# Altium schematic symbol library larar6.SchLib: 17 symbols
Pins are listed as number, name and electrical type; pins without a type are passive.

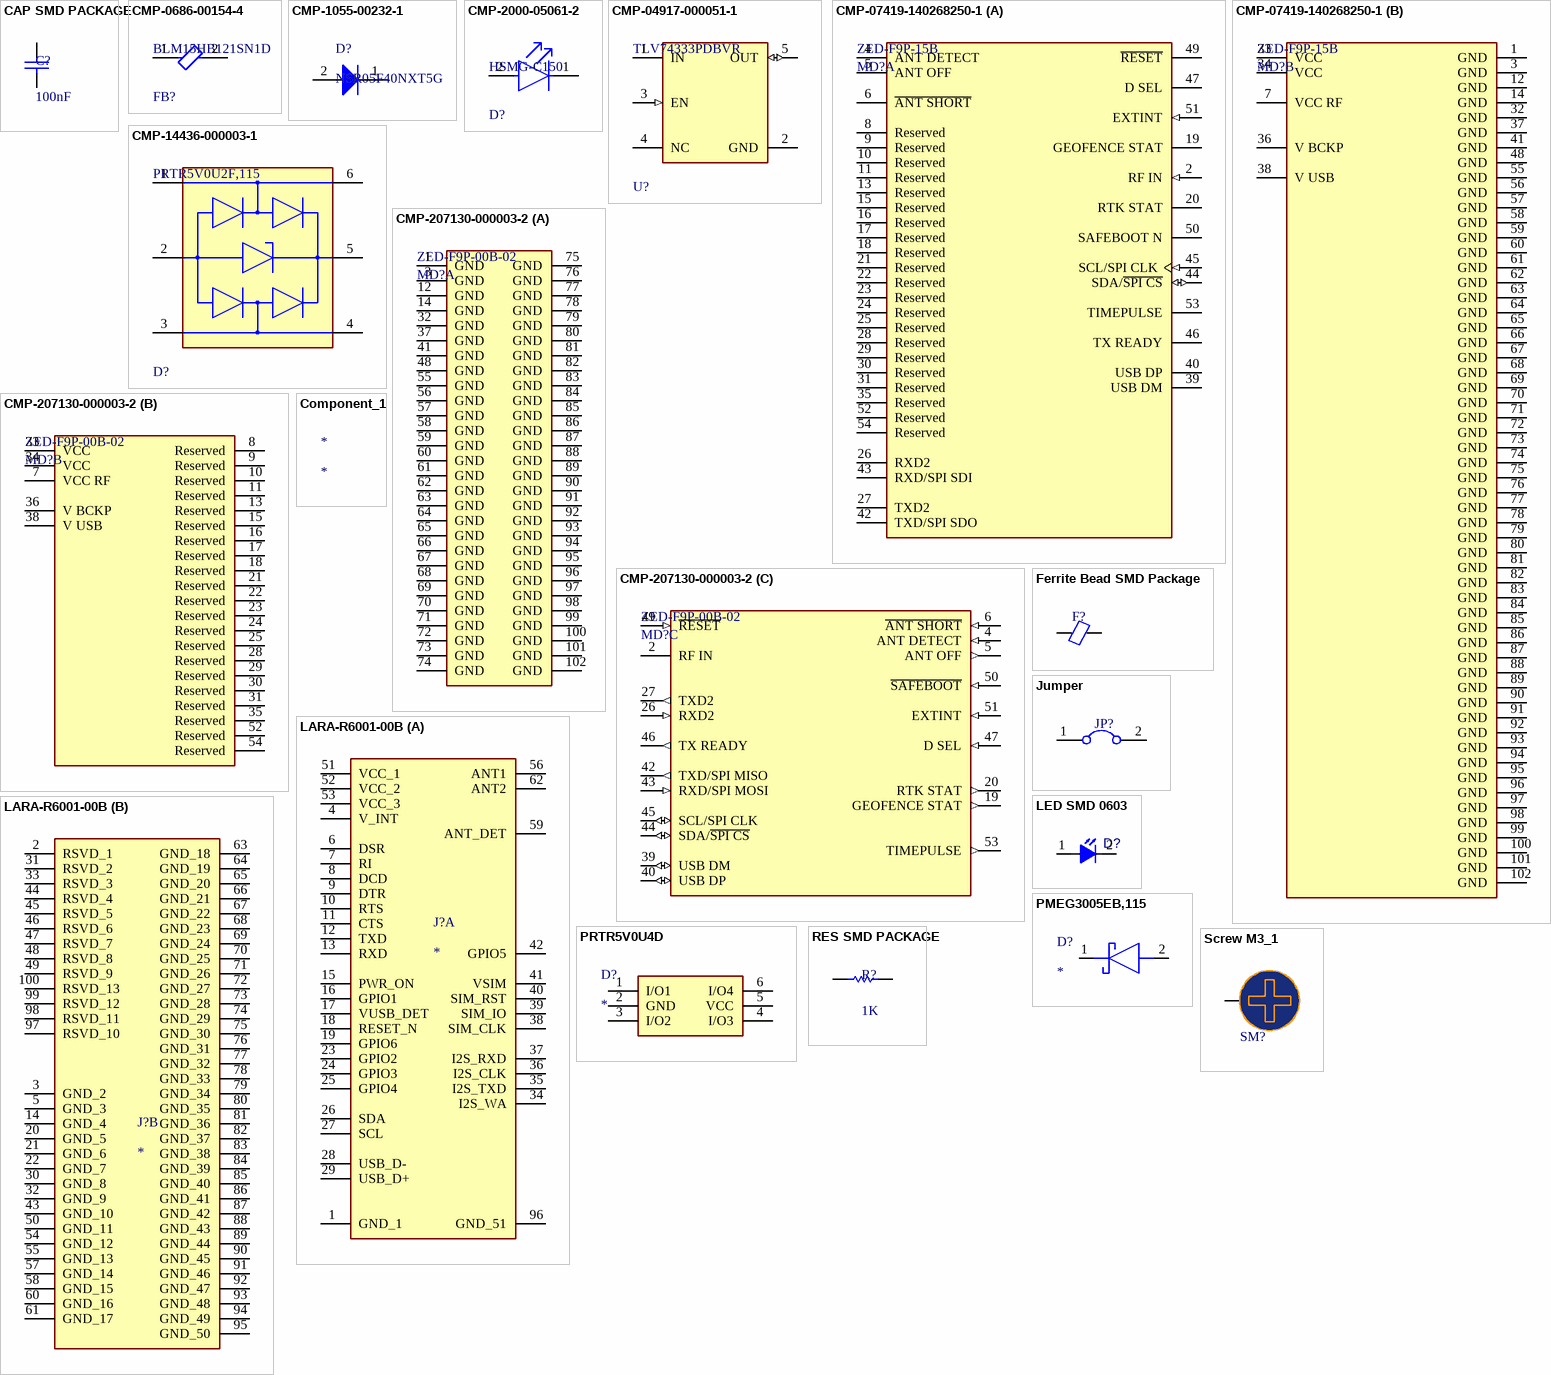
[diagram p0: symbols CAP SMD PACKAGE to Screw M3_1]

## CAP SMD PACKAGE
designator C?, comment 100nF
TOTAL CAPACITOR SMD PACK; Designer: Abbas Basereh; Desc.: CAP SMD TOTAL PACKAGES; Data: 2017-3-10; VALUE: 100nF
signal-integrity model CAP SMD (CAP SMD PACK)
footprint CAP0201 (Chip Capacitor, 2-Leads, Body 0/60x0/30mm, IPC Medium Density DESIGNER:ABBAS BASEREH)
footprint CAP0402 (Chip Capacitor, 2-Leads, Body 1/00x0/50mm, IPC Medium Density DESIGNER:ABBAS BASEREH)
footprint CAP0603 (Chip Capacitor, 2-Leads, Body 1/60x0/80mm, IPC Medium Density DESIGNER:ABBAS BASEREH)
footprint CAP0805 (Chip Capacitor, 2-Leads, Body 2/00x1/25mm, IPC Medium Density DESIGNER:ABBAS BASEREH)
footprint CAP1206 (Chip Capacitor, 2-Leads, Body 3/20x1/60mm, IPC Medium Density DESIGNER:ABBAS BASEREH)
footprint CAP1210 (Chip Capacitor, 2-Leads, Body 3/20x2/50mm, IPC Medium Density DESIGNER:ABBAS BASEREH)
footprint CAP1812 (Chip Capacitor, 2-Leads, Body 4/50x3/20mm, IPC Medium Density DESIGNER:ABBAS BASEREH)
footprint CAP2010 (Chip Capacitor, 2-Leads, Body 5/00x2/50mm, IPC Medium Density DESIGNER:ABBAS BASEREH)
footprint CAP2512 (Chip Capacitor, 2-Leads, Body 6/40x3/20mm, IPC Medium Density DESIGNER:ABBAS BASEREH)
footprint Cap402_(1005X05L) (Chip Capacitor, 2-Leads, Body 1.0x0.5mm, IPC High Density)
footprint Cap1206_(3216X15)
footprint Cap1206_(3216X15L) (Chip Capacitor, 2-Leads, Body 3.2x1.6mm, IPC High Density)
footprint Cap1206_(3216X18L)Size A (Chip Capacitor, 2-Leads, Body 3.2x1.6mm, IPC High Density, chip Tantalum)
footprint CAP805
footprint CAPC3413X12N (Chip Capacitor, 2-Leads, Body 3/40x1/30mm, IPC Medium Density-Design:Abbas Basereh)
footprint Cap SMD 100UF 35~50v
footprint CAP SMD 470uF (SMD CAP 470uF)
footprint CAP SMD 1000UF 16V
pins: 1, 2

## CMP-0686-00154-4
designator FB?, comment BLM15HB121SN1D
Chip Ferrite Bead, 0402, 120Ω @ 100MHz, 0.7Ω, 25%, 300mA; Impedance: 120R; DC Resistance (DCR): 700mR; Number of Lines: 1; Material: Steel; Lead Free: Lead Free; Min Operating Temperature: -55°C; Package Quantity: 10000; Tolerance: 25%; REACH SVHC: No SVHC; Termination: SMD/SMT; Number of Pins: 2; Frequency: 100MHz; Weight: 2.3E-05oz; Test Frequency: 100MHz; Series: BLM15H; Max DC Current: 300mA; Packaging: Tape and Reel; Width: 0.5mm; Max Current Rating: 300mA; Height: 0.5mm; Depth: 0.55mm; Case Code (Imperial): 0402; RoHS Compliant: Yes; Max Operating Temperature: 125°C; Current Rating: 300mA; Case Code (Metric): 1005; Number of Circuits: 1; Length: 1mm; Case/Package: 0402
footprint FP-BLM15-0_05-IPC_C
footprint FP-BLM15-0_05-IPC_A
footprint FP-BLM15-0_05-MFG
footprint FP-BLM15-0_05-IPC_B
pins: 1, 2

## CMP-1055-00232-1
designator D?, comment NSR05F40NXT5G
Schottky Barrier Diode, 2-Pin DSN, Pb-Free, Tape and Reel; Manufacturer: On Semiconductor; IFSM Max (A): 10; Configuration: Single; RoHS: TRUE; PackageVersion: Rev. C, 01/2011; ComponentLink3Description: Package Specification; ComponentLink3URL: http://www.onsemi.cn/pub_link/Collateral/152AC.PDF; PackageDescription: 2-Pin Micro Molded Package, Body 1 x 0.6 mm; ComponentLink1URL: http://www.onsemi.com/; ComponentLink1Description: Manufacturer URL; Mounting Technology: Surface Mount; Packing: Tape and Reel; PackageReference: DSN-2-152AC-01; ComponentLink2Description: Datasheet; DatasheetVersion: Rev. 3; ComponentLink2URL: http://www.onsemi.cn/pub_link/Collateral/NSR05F40.PDF; PartNumber: NSR05F40NXT5G
footprint ONSC-DSN-2-152AC-01_V (DSN, 2-Leads, Body 1x0.6mm)
pins: 1 K, 2 A

## CMP-2000-05061-2
designator D?, comment HSMG-C150
LED GREEN DIFFUSED 1206 SMD; Manufacturer: Broadcom; Led Orientation: Top View; Max Junction Temp: +95°C; Peak Emmision Wavelength: 570nm; Viewing Angle: 170°; Wavelength: 572nm; Reverse Voltage: 5V; Luminous Intensity: 15mcd; Forward Voltage: 2.2V; Power Dissipation: 65mW; Forward Current: 20mA; ComponentLink2Description: Datasheet; Lead Free: Yes; Temperature Range Low: -40°C; Package: HSMG-C150; Digikey Description: LED GREEN DIFFUSED 1206 SMD; Mouser Description: LED Uni-Color Green 570nm 2-Pin Chip LED T/R; Manufacturer Part Number: HSMG-C150; Temperature Range High: +85°C; Device Class L1: Optoelectronics; Colour: Green; Category: Diode; Device Class L3: unset; RoHS: TRUE; Height: 1.2mm; ComponentLink2URL: https://docs.broadcom.com/docs/AV02-0551EN; Device Class L2: LEDs; Automotive: No; Ipc Land Pattern Name: DIOCP320160X55; Octopart: https://octopart.com/hsmg-c150-broadcom-71131304; Temperature: -40°C to +85°C
footprint FP-HSMG-C150-MFG
pins: 1 C, 2 A

## CMP-04917-000051-1
designator U?, comment TLV74333PDBVR
IC REG LINEAR 3.3V 300MA SOT23-5; Manufacturer: Texas Instruments; Dropout Voltage: 125mV; Output Type: Fixed; Min Supply Voltage: 1.4V; Max Supply Voltage: 5.5V; Output Voltage: 1-3.3V; Standoff Height: 0mm; Nominal Supply Current: 34uA; Number Of Outputs: 1; Accuracy Percentage: 1%; Max Junction Temp: +125°C; Mouser Description: 300mA Low-Dropout (LDO) Regulator 5-SOT-23 -40 to 125; Device Class L1: Integrated Circuits (ICs); Temperature Range High: +125°C; Octopart: https://octopart.com/tlv74333pdbvr-texas+instruments-84791760; Device Class L3: Voltage Regulators - Linear; Height: 1.45mm; Category: IC; Temperature Range Low: -40°C; Output Current: 300mA; RoHS: TRUE; Automotive: No; Manufacturer Part Number: TLV74333PDBVR; Digikey Description: IC REG LINEAR 3.3V 300MA SOT23-5; Package: DBV0005A; Temperature: -40°C to +125°C; ComponentLink2URL: http://www.ti.com/lit/ds/symlink/tlv743p.pdf; Lead Free: Yes; Device Class L2: Power Management ICs; ComponentLink2Description: Datasheet
footprint FP-DBV0005A-MFG
footprint FP-DBV0005A-IPC_B
footprint FP-DBV0005A-IPC_C
footprint FP-DBV0005A-IPC_A
pins: 1 IN (power), 2 GND (power), 3 EN (in), 4 NC, 5 OUT (io)

## CMP-07419-140268250-1
designator MD?, comment ZED-F9P-15B
ZED-F9P-15B GNSS / GPS Modules u-blox F9 dual band L1/L5 GNSS module high precision Professi; NexarPartId: 140268250; Interface: I2C, SPI, UART, USB; Min Supply Voltage: 1.65V; Max Supply Voltage: 3.6V; Data Rate: 400kbps; Max Operating Temperature: 85°C; Height: 2.6mm; Min Operating Temperature: -40°C
footprint FP-ZED-F9P-15B-MFG
part A pins: 2 RF IN (in), 4 ANT DETECT, 5 ANT OFF, 6 ~{ANT SHORT}, 8 Reserved, 9 Reserved, 10 Reserved, 11 Reserved, 13 Reserved, 15 Reserved, 16 Reserved, 17 Reserved, 18 Reserved, 19 GEOFENCE STAT, 20 RTK STAT, 21 Reserved, 22 Reserved, 23 Reserved, 24 Reserved, 25 Reserved, 26 RXD2, 27 TXD2, 28 Reserved, 29 Reserved, 30 Reserved, 31 Reserved, 35 Reserved, 39 USB DM, 40 USB DP, 42 TXD/SPI SDO, 43 RXD/SPI SDI, 44 SDA/~{SPI CS} (io), 45 SCL/SPI CLK (in), 46 TX READY, 47 D SEL, 49 ~{RESET}, 50 SAFEBOOT N, 51 EXTINT (in), 52 Reserved, 53 TIMEPULSE, 54 Reserved
part B pins: 1 GND (power), 3 GND (power), 7 VCC RF, 12 GND (power), 14 GND (power), 32 GND (power), 33 VCC (power), 34 VCC (power), 36 V BCKP, 37 GND (power), 38 V USB (power), 41 GND (power), 48 GND (power), 55 GND (power), 56 GND (power), 57 GND (power), 58 GND (power), 59 GND (power), 60 GND (power), 61 GND (power), 62 GND (power), 63 GND (power), 64 GND (power), 65 GND (power), 66 GND (power), 67 GND (power), 68 GND (power), 69 GND (power), 70 GND (power), 71 GND (power), 72 GND (power), 73 GND (power), 74 GND (power), 75 GND (power), 76 GND (power), 77 GND (power), 78 GND (power), 79 GND (power), 80 GND (power), 81 GND (power), 82 GND (power), 83 GND (power), 84 GND (power), 85 GND (power), 86 GND (power), 87 GND (power), 88 GND (power), 89 GND (power), 90 GND (power), 91 GND (power), 92 GND (power), 93 GND (power), 94 GND (power), 95 GND (power), 96 GND (power), 97 GND (power), 98 GND (power), 99 GND (power), 100 GND (power), 101 GND (power), 102 GND (power)

## CMP-14436-000003-1
designator D?, comment PRTR5V0U2F,115
TVS DIODE 5.5V 6XSON SOT886; Manufacturer: Nexperia; Capacitance: 1pF; Number Of Channels: 2; Automotive Grade: Grade 3; Direction: Unidirectional; Value: 1pF; Breakdown Voltage: 6V; Octopart: https://octopart.com/prtr5v0u2f%2C115-nexperia-78741690; Height: 0.5mm; Category: Diode; RoHS: TRUE; Automotive: Yes; Reverse Standoff Voltage: 5.5V; Digikey Description: TVS DIODE 5.5V 6XSON SOT886; Device Class L1: Circuit Protection; Ambient Temperature Range High: +85°C; ComponentLink2Description: Datasheet; Manufacturer Part Number: PRTR5V0U2F,115; Device Class L3: unset; Footprint Url: https://assets.nexperia.com/documents/outline-drawing/SOT886.pdf; Lead Free: Yes; Ambient Temperature Range Low: -40°C; Device Class L2: TVS Diodes; Package: SOT886; ComponentLink2URL: https://assets.nexperia.com/documents/data-sheet/PRTR5V0U2F_PRTR5V0U2K.pdf
footprint FP-SOT886-MFG
pins: 1 I/O1, 2 GND (power), 3 I/O2, 4 I/O2, 5 VCC (power), 6 I/O1

## CMP-207130-000003-2
designator MD?, comment ZED-F9P-00B-02
RF RECEIVER GNSS/GPS 54LGA; Manufacturer: ublox; Data Rate: 400kbits/s; Max Frequency: 1602MHz; Automotive Grade: Grade 3; Sensitivity: -167dBm; Bandwidth: 1227.6-1575.42MHz; Max Supply Voltage: 3.6V; Nominal Supply Current: 68-90mA; Min Supply Voltage: 1.65V; Interface: I2C,SPI,UART,USB; Device Class L3: RF Receivers; Category: UNK; Temperature Range Low: -40°C; Device Class L1: Integrated Circuits (ICs); Temperature: -40°C to +85°C; Height: 2.6mm; Automotive: Yes; Octopart: https://octopart.com/zed-f9p-00b-02-u-blox-99968466; Digikey Description: RF RECEIVER GNSS/GPS 54LGA; ComponentLink2URL: https://www.u-blox.com/sites/default/files/ZED-F9P_DataSheet_%28UBX-17051259%29.pdf; ComponentLink2Description: Datasheet; RoHS: TRUE; Package: ZED-F9P-00B-02; Lead Free: Yes; Manufacturer Part Number: ZED-F9P-00B-02; Temperature Range High: +85°C; Device Class L2: RF Semiconductors and Devices
footprint FP-ZED-F9P-15B-MFG
part A pins: 1 GND (power), 3 GND (power), 12 GND (power), 14 GND (power), 32 GND (power), 37 GND (power), 41 GND (power), 48 GND (power), 55 GND (power), 56 GND (power), 57 GND (power), 58 GND (power), 59 GND (power), 60 GND (power), 61 GND (power), 62 GND (power), 63 GND (power), 64 GND (power), 65 GND (power), 66 GND (power), 67 GND (power), 68 GND (power), 69 GND (power), 70 GND (power), 71 GND (power), 72 GND (power), 73 GND (power), 74 GND (power), 75 GND (power), 76 GND (power), 77 GND (power), 78 GND (power), 79 GND (power), 80 GND (power), 81 GND (power), 82 GND (power), 83 GND (power), 84 GND (power), 85 GND (power), 86 GND (power), 87 GND (power), 88 GND (power), 89 GND (power), 90 GND (power), 91 GND (power), 92 GND (power), 93 GND (power), 94 GND (power), 95 GND (power), 96 GND (power), 97 GND (power), 98 GND (power), 99 GND (power), 100 GND (power), 101 GND (power), 102 GND (power)
part B pins: 7 VCC RF (power), 8 Reserved, 9 Reserved, 10 Reserved, 11 Reserved, 13 Reserved, 15 Reserved, 16 Reserved, 17 Reserved, 18 Reserved, 21 Reserved, 22 Reserved, 23 Reserved, 24 Reserved, 25 Reserved, 28 Reserved, 29 Reserved, 30 Reserved, 31 Reserved, 33 VCC (power), 34 VCC (power), 35 Reserved, 36 V BCKP (power), 38 V USB (power), 52 Reserved, 54 Reserved
part C pins: 2 RF IN, 4 ANT DETECT (in), 5 ANT OFF (out), 6 ~{ANT SHORT} (in), 19 GEOFENCE STAT (out), 20 RTK STAT (out), 26 RXD2 (in), 27 TXD2 (out), 39 USB DM (io), 40 USB DP (io), 42 TXD/SPI MISO (out), 43 RXD/SPI MOSI (in), 44 SDA/~{SPI CS} (io), 45 SCL/SPI CLK (io), 46 TX READY (out), 47 D SEL (in), 49 ~{RESET} (in), 50 ~{SAFEBOOT} (in), 51 EXTINT (in), 53 TIMEPULSE (out)

## Component_1
designator *

## Ferrite Bead SMD Package
designator F?, comment Ferrite Bead SMD  (value not drawn)
Designer: Ali Hafizi
footprint FB0402 (Ferrite Chip Bead SMD 0402-Design:Ali Hafizi)
footprint FB0603 (Ferrite Chip Bead SMD 0603-Design:Ali Hafizi)
footprint FB0805 (Ferrite Chip Bead SMD 0805-Design:Ali Hafizi)
footprint FB1206 (Ferrite Chip Bead SMD 1206-Design:Ali Hafizi)
pins: 1, 2

## Jumper
designator JP?
Jumper; Company: E.P.I.L; Defualt State: Close; Design Date: 2011/11/02
footprint Jumper
footprint Jumper SMD
footprint Jumper Small - 2.54 - BLUE
footprint Jumper Small - 2.54 - GRAY
footprint Jumper Small - 2.54 - RED
footprint Jumper Small - 2.54 - GRAY - Open
footprint Jumper SMD - Small
pins: 1, 2

## LARA-R6001-00B
designator J?
Connector; Manufacturer_Name: u-blox; Manufacturer_Part_Number: LARA-R6001-00B; Datasheet Link: https://content.u-blox.com/sites/default/files/LARA-R6_DataSheet_UBX-21004391.pdf; Height: 2.87mm; Mouser Part Number: 377-LARA-R6001-00B; Mouser Price/Stock: https://www.mouser.co.uk/ProductDetail/u-blox/LARA-R6001-00B?qs=Li%252BoUPsLEnu1nGRnflMQjg%3D%3D
footprint LARAR600100B
part A pins: 1 GND_1, 4 V_INT, 6 DSR, 7 RI, 8 DCD, 9 DTR, 10 RTS, 11 CTS, 12 TXD, 13 RXD, 15 PWR_ON, 16 GPIO1, 17 VUSB_DET, 18 RESET_N, 19 GPIO6, 23 GPIO2, 24 GPIO3, 25 GPIO4, 26 SDA, 27 SCL, 28 USB_D-, 29 USB_D+, 34 I2S_WA, 35 I2S_TXD, 36 I2S_CLK, 37 I2S_RXD, 38 SIM_CLK, 39 SIM_IO, 40 SIM_RST, 41 VSIM, 42 GPIO5, 51 VCC_1, 52 VCC_2, 53 VCC_3, 56 ANT1, 59 ANT_DET, 62 ANT2, 96 GND_51
part B pins: 2 RSVD_1, 3 GND_2, 5 GND_3, 14 GND_4, 20 GND_5, 21 GND_6, 22 GND_7, 30 GND_8, 31 RSVD_2, 32 GND_9, 33 RSVD_3, 43 GND_10, 44 RSVD_4, 45 RSVD_5, 46 RSVD_6, 47 RSVD_7, 48 RSVD_8, 49 RSVD_9, 50 GND_11, 54 GND_12, 55 GND_13, 57 GND_14, 58 GND_15, 60 GND_16, 61 GND_17, 63 GND_18, 64 GND_19, 65 GND_20, 66 GND_21, 67 GND_22, 68 GND_23, 69 GND_24, 70 GND_25, 71 GND_26, 72 GND_27, 73 GND_28, 74 GND_29, 75 GND_30, 76 GND_31, 77 GND_32, 78 GND_33, 79 GND_34, 80 GND_35, 81 GND_36, 82 GND_37, 83 GND_38, 84 GND_39, 85 GND_40, 86 GND_41, 87 GND_42, 88 GND_43, 89 GND_44, 90 GND_45, 91 GND_46, 92 GND_47, 93 GND_48, 94 GND_49, 95 GND_50, 97 RSVD_10, 98 RSVD_11, 99 RSVD_12, 100 RSVD_13

## LED SMD 0603
designator D?
LED SMD 0603; ComponentLink1Description: Tarahiboard; ComponentLink1URL: https://www.tarahiboard.com/product/library-pack; DatasheetVersion: 2022
footprint LED SMD 0603 (Blue) ((Make www.tarahiboard.com))
footprint LED SMD 0603 (green) ((Make www.tarahiboard.com))
footprint LED SMD 0603 (Orange) ((Make www.tarahiboard.com))
footprint LED SMD 0603 (Red) ((Make www.tarahiboard.com))
footprint LED SMD 0603 (White) ((Make www.tarahiboard.com))
footprint LED SMD 0603 (Yellow) ((Make www.tarahiboard.com))
footprint LED SMD 0603 2 (Green) ((Make www.tarahiboard.com))
pins: 1 ANODE, 2 CATHODE

## PMEG3005EB,115
designator D?
Schottky Diode; Manufacturer_Name: Nexperia; Manufacturer_Part_Number: PMEG3005EB,115; Datasheet Link: https://assets.nexperia.com/documents/data-sheet/PMEG3005EB.pdf; Height: 0.65mm; Mouser Part Number: 771-PMEG3005EB115; Mouser Price/Stock: https://www.mouser.co.uk/ProductDetail/Nexperia/PMEG3005EB115?qs=LOCUfHb8d9sJz8AA9%252BQ%252Bgg%3D%3D; Arrow Part Number: PMEG3005EB,115; Arrow Price/Stock: https://www.arrow.com/en/products/pmeg3005eb115/nexperia?region=asia
footprint SODFL1608X65N
pins: 1 K, 2 A

## PRTR5V0U4D
designator D?
Diode; Manufacturer_Name: Nexperia; Manufacturer_Part_Number: PRTR5V0U4D; Datasheet Link: https://assets.nexperia.com/documents/data-sheet/PRTR5V0U4D.pdf; Height: 1.1mm; Mouser Part Number: N/A; Mouser Price/Stock: https://www.mouser.co.uk/ProductDetail/Nexperia/PRTR5V0U4D?qs=vHuUswq2%252BsyGEwE2lWbPJQ%3D%3D
footprint SOT95P275X110-6N
pins: 1 I/O1, 2 GND, 3 I/O2, 4 I/O3, 5 VCC, 6 I/O4

## RES SMD PACKAGE
designator R?, comment 1K
TOTAL SMD RESISTOR PACK; Designer: Abbas Basereh; Desc.: RES SMD PAKAGES; Data: 2017-3-10
footprint RES0201 (Chip Resistor, 2-Leads, Body 0/60x0/30mm, IPC Medium Density DESIGNER:ABBAS BASEREH)
footprint RES0402 (Chip Resistor, 2-Leads, Body 1/00x0/50mm, IPC Medium Density DESIGNER:ABBAS BASEREH)
footprint RES0603 (Chip Resistor, 2-Leads, Body 1/60x0/80mm, IPC Medium Density DESIGNER:ABBAS BASEREH)
footprint RES0805 (Chip Resistor, 2-Leads, Body 2/00x1/25mm, IPC Medium Density DESIGNER:ABBAS BASEREH)
footprint RES1206 (Chip Resistor, 2-Leads, Body 3/20x1/60mm, IPC Medium Density DESIGNER:ABBAS BASEREH)
footprint RES1210 (Chip Resistor, 2-Leads, Body 3/20x2/50mm, IPC Medium Density DESIGNER:ABBAS BASEREH)
footprint RES1812 (Chip Resistor, 2-Leads, Body 4/50x3/20mm, IPC Medium Density DESIGNER:ABBAS BASEREH)
footprint RES2010 (Chip Resistor, 2-Leads, Body 5/00x2/50mm, IPC Medium Density DESIGNER:ABBAS BASEREH)
footprint RES2512 (Chip Resistor, 2-Leads, Body 6/40x3/20mm, IPC Medium Density DESIGNER:ABBAS BASEREH)
footprint RES0201_(0603X03L) (Chip Resistor, 2-Leads, Body 0.6x0.3mm, IPC High Density (0.05 W))
footprint RES0402_(1005X04L) (Chip Resistor, 2-Leads, Body 1.0x0.5mm, IPC High Density _ (0.031/0.063 W))
footprint RES0603_(1608X06L) (Chip Resistor, 2-Leads, Body 1.6x0.8mm, IPC High Density _ (0.063W))
footprint RES0805_(2012X06L) (Chip Resistor, 2-Leads, Body 2.0x1.3mm, IPC High Density _ (0.100 W))
footprint RES1206 _(3216X08L) (Chip Resistor, 2-Leads, Body 3.2x1.6mm, IPC High Density _ (0.125 W))
footprint RES1210_(3226X07L) (Chip Resistor, 2-Leads, Body 3.2x2.6mm, IPC High Density _ (0.250 W))
footprint RES1217_(3042X09L) (Chip Resistor, 2-Leads, Body 3.0x4.2mm, IPC High Density _ (0.250 W))
footprint RES2010_(5026X08L) (Chip Resistor, 2-Leads, Body 5.0x2.6mm, IPC High Density _ (0.250 W))
footprint RES2020_(5151X09L) (Chip Resistor, 2-Leads, Body 5.1x5.1mm, IPC High Density _ (0.5 W))
footprint RES2045_(50115X09L) (Chip Resistor, 2-Leads, Body 5.0x11.5mm, IPC High Density _ (1.0 W))
footprint RES2512_(6331X07L) (Chip Resistor, 2-Leads, Body 6.3x3.1mm, IPC High Density _ (0.500 W))
pins: 1, 2

## Screw M3_1
designator SM?  (no BOM)
Screw, hole diameter 3.2mm & 3.7mm, PanHead 5mm & 5.6mm & 6mm & 7mm; ComponentLink1Description: Website: Tarahiboard; ComponentLink1URL: https://www.tarahiboard.com/product/library-pack; DatasheetVersion: 2022
footprint Screw-Chsh-M3 (Screw, hole diameter 3.2mm, PanHead 6mm, (Make www.tarahiboard.com))
footprint Screw-Chsh-M3-wopad (Screw, hole diameter 3.2mm, PanHead 0mm, (Make www.tarahiboard.com))
footprint Screw-Chsh-M3-wovia (Screw, hole diameter 3.2mm, PanHead 6mm, (Make www.tarahiboard.com))
footprint Screw-Chsh-M3F (Screw, hole diameter 3.2mm, PanHead 7mm, (Make www.tarahiboard.com))
footprint Screw-Chsh-M3FT (Screw, hole diameter 3.2mm, PanHead 5mm, (Make www.tarahiboard.com))
footprint Screw-Chsh-M3P5 (Screw, hole diameter 3.7mm, PanHead 7mm, (Make www.tarahiboard.com))
footprint Screw-Chsh-M3P5FT (Screw, hole diameter 3.7mm, PanHead 5.6mm, (Make www.tarahiboard.com))
footprint Screw-Flth2-M3 (Screw, hole diameter 3.2mm, PanHead 6mm, (Make www.tarahiboard.com))
footprint Screw-Flth2-M3-wopad (Screw, hole diameter 3.2mm, PanHead 0mm, (Make www.tarahiboard.com))
footprint Screw-Flth2-M3-wovia (Screw, hole diameter 3.2mm, PanHead 6mm, (Make www.tarahiboard.com))
footprint Screw-Flth2-M3F (Screw, hole diameter 3.2mm, PanHead 7mm, (Make www.tarahiboard.com))
footprint Screw-Flth2-M3FT (Screw, hole diameter 3.2mm, PanHead 5mm, (Make www.tarahiboard.com))
footprint Screw-Flth2-M3P5 (Screw, hole diameter 3.7mm, PanHead 7mm, (Make www.tarahiboard.com))
footprint Screw-Flth2-M3P5FT (Screw, hole diameter 3.7mm, PanHead 5.6mm, (Make www.tarahiboard.com))
footprint Screw-Flth-M3 (Screw, hole diameter 3.2mm, PanHead 6mm, (Make www.tarahiboard.com))
footprint Screw-Flth-M3-wopad (Screw, hole diameter 3.2mm, PanHead 0mm, (Make www.tarahiboard.com))
footprint Screw-Flth-M3-wovia (Screw, hole diameter 3.2mm, PanHead 6mm, (Make www.tarahiboard.com))
footprint Screw-Flth-M3F (Screw, hole diameter 3.2mm, PanHead 7mm, (Make www.tarahiboard.com))
footprint Screw-Flth-M3FT (Screw, hole diameter 3.2mm, PanHead 5mm, (Make www.tarahiboard.com))
footprint Screw-Flth-M3P5 (Screw, hole diameter 3.7mm, PanHead 7mm, (Make www.tarahiboard.com))
footprint Screw-Flth-M3P5FT (Screw, hole diameter 3.7mm, PanHead 5.6mm, (Make www.tarahiboard.com))
footprint Screw-M3 (Screw, hole diameter 3.2mm, PanHead 6mm, (Make www.tarahiboard.com))
footprint Screw-M3-wopad (Screw, hole diameter 3.2mm, PanHead 0mm, (Make www.tarahiboard.com))
footprint Screw-M3-wovia (Screw, hole diameter 3.2mm, PanHead 6mm, (Make www.tarahiboard.com))
footprint Screw-M3F (Screw, hole diameter 3.2mm, PanHead 7mm, (Make www.tarahiboard.com))
footprint Screw-M3FT (Screw, hole diameter 3.2mm, PanHead 5mm, (Make www.tarahiboard.com))
footprint Screw-M3P5 (Screw, hole diameter 3.7mm, PanHead 7mm, (Make www.tarahiboard.com))
footprint Screw-M3P5FT (Screw, hole diameter 3.7mm, PanHead 5.6mm, (Make www.tarahiboard.com))
footprint Screw-Panh-M3 (Screw, hole diameter 3.2mm, PanHead 6mm, (Make www.tarahiboard.com))
footprint Screw-Panh-M3-wopad (Screw, hole diameter 3.2mm, PanHead 0mm, (Make www.tarahiboard.com))
footprint Screw-Panh-M3-wovia (Screw, hole diameter 3.2mm, PanHead 6mm, (Make www.tarahiboard.com))
footprint Screw-Panh-M3F (Screw, hole diameter 3.2mm, PanHead 7mm, (Make www.tarahiboard.com))
footprint Screw-Panh-M3FT (Screw, hole diameter 3.2mm, PanHead 5mm, (Make www.tarahiboard.com))
footprint Screw-Panh-M3P5 (Screw, hole diameter 3.7mm, PanHead 7mm, (Make www.tarahiboard.com))
footprint Screw-Panh-M3P5FT (Screw, hole diameter 3.7mm, PanHead 5.6mm, (Make www.tarahiboard.com))
pins: 1